# Altium schematic symbol library Nixie.SchLib: 30 symbols
Pins are listed as number, name and electrical type; pins without a type are passive.

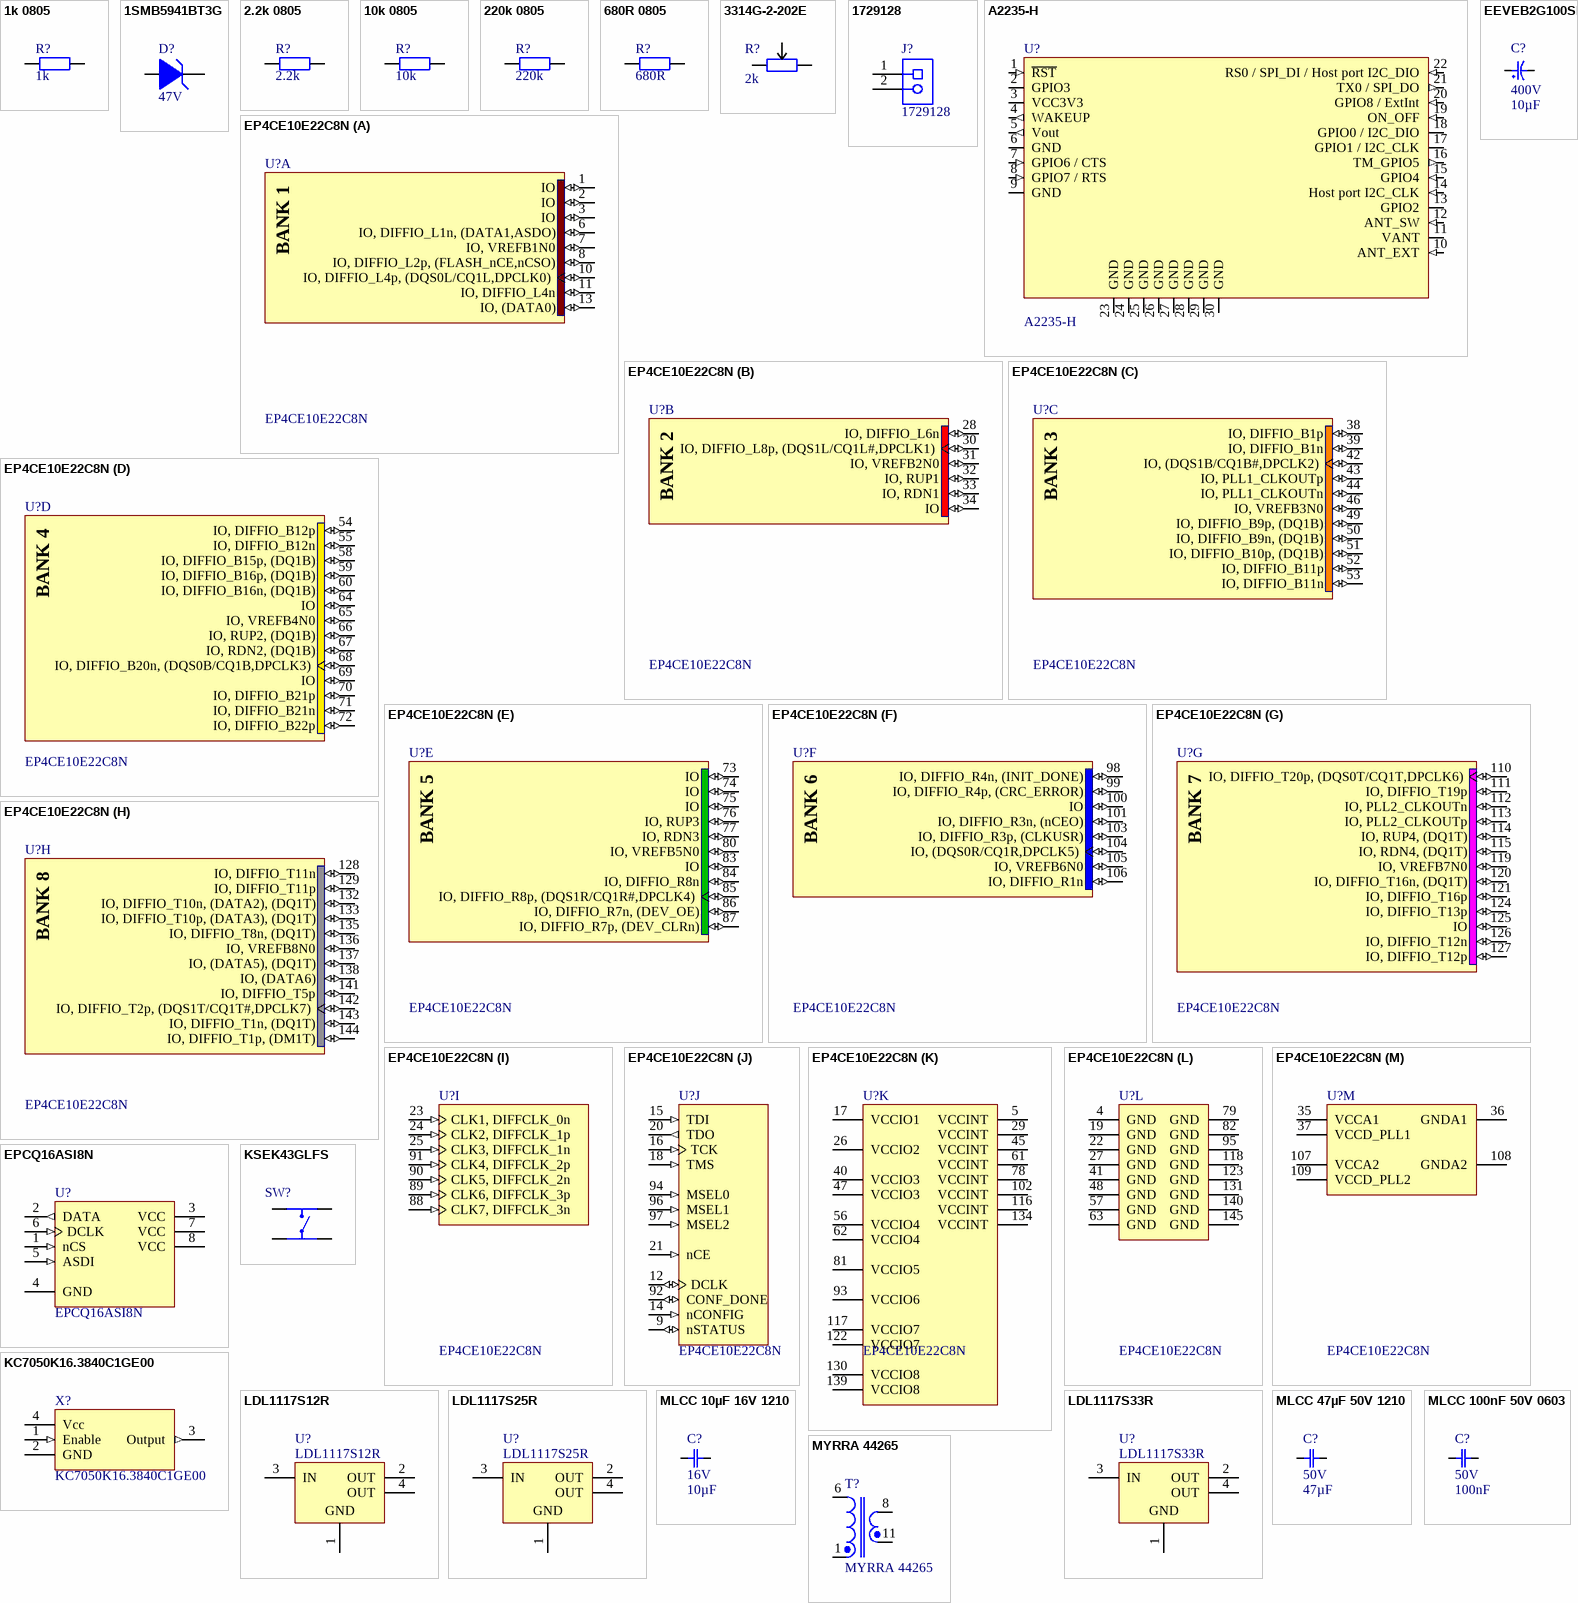
[diagram p0: symbols 1k 0805 to MYRRA 44265]

## 1k 0805
designator R?, comment 1k
Chip resistor 1k 0805; Value: 1k
footprint RES0805 (Chip Resistor, 0805)
pins: 1, 2
text: Text

## 1SMB5941BT3G
designator D?, comment 47V
47V Zener diode; HelpURL: https://datasheet.ciiva.com/15142/getdatasheetpartid-72163-15142395.pdf
footprint 1SMB5941BT3G (Molded Diode, 2-Leads, Body 4,33x3,63mm, IPC Low Density)
pins: A, K

## 2.2k 0805
designator R?, comment 2.2k
Chip resistor 2.2k 0805; Value: 2.2k
footprint RES0805 (Chip Resistor, 0805)
pins: 1, 2
text: Text

## 10k 0805
designator R?, comment 10k
Chip resistor 10k 0805; Value: 10k
footprint RES0805 (Chip Resistor, 0805)
pins: 1, 2
text: Text

## 220k 0805
designator R?, comment 220k
Chip resistor 220k 0805; Value: 220k
footprint RES0805 (Chip Resistor, 0805)
pins: 1, 2
text: Text

## 680R 0805
designator R?, comment 680R
Chip resistor 680R 0805; Value: 680R
footprint RES0805 (Chip Resistor, 0805)
pins: 1, 2
text: Text

## 3314G-2-202E
designator R?, comment 2k
Trimming potentiometer, 2k; Value: 2k
footprint 3314G-2-202E (Trimming potentiometer)
pins: 1, 2 3, 3 2
text: Text

## 1729128
designator J?
PCB Terminal Block, 13.5 A, 400 V, 2-Pin THD, RoHS, Bulk; Manufacturer: Phoenix Contact; Package Version: 03/2015; No. of Rows: 1; Pitch: 5.08mm; No. of Positions: 2; Voltage Rating: 400V; Current Rating: 13500mA; Manufacturer URL: http://www.phoenixcontact.com/; Datasheet URL: https://datasheet.ciiva.com/16046/1729128-16046181.pdf; RoHS: TRUE; Package URL: https://www.phoenixcontact.com/online/portal/pi/pxc/product_detail_page/!ut/p/b1/3VdJjqNKFDxLH8AFycySyWY2ozFsEPOMMQaDOX1XedGL_1Vdm5YXJleknhSKeBkvI6EA8ncAo3AYoDhBQGco6KN7VURTdemj9us_IEKEZo_YHiPAEWEFmDGOHMORkqKYCORBZxgL7ZoaZYcbFFUZ3fqxSY6GOuxydWUuHqz1ynmMFygu583Bob0Ewr6Sd_l-5m-kAueHiB0jpRwZwe58wwtkpxtMYd_LmGcDRU02dRNEyWt6Y2ti5pSyJ_reIkzIulrqApdnbT11V5jnCKbYNCvhEM1MCpPByat_X379-iThf08CI5GfOPqfBeS3BRoBOdD55AKVv0iLwCMq-2BrzXWSGRH7pUGD9uwXQjiph3xL0DKQwdGa0JImiIOmBNOestqgwTHSSs2oOep-78apyXQBvNi8ZLaFjvjWvcaUEBu0MC6Wbe-d6mB0FAebo2lUWinqYaZs5DAYzV0RP9yitUjnGJ0iI9xhZkT42OCQNUJJhkgWINNQLP2JFP6OpMg3JCVg70jqHT0lvKOnhHf0lPuOnnLf0VPuWx6_dxwUIvwk5WMkT0kLL1mh61l2yZVSzG3pYV_bqo-mj6uMKwKwdnnW8Jh5RTOJzMOA5c-eJDaZQw4mTMPH02PvS_ZAqNVjVTo2WyYLkwH_KU1mmmG5kjRhDqPXLwwVHvVOjCM60-fpXvTDfMGW1PVFVS1r4e4yVDk4ZdNbkUHvqPqQSeian4UD39fNKmachqdJ1NJbyk8rXT9mXTvPk3oE5meulKGgiruPJek-4I9hTT6G8ZLOyRSm2RRVbThERQad5OS28hdt4YW4vG0stgYYzsWsK4_7y6DZMjJSCqri1kyiZR5vD7pwIrNR7QwPHTcLTI5qT7eRlpHrdGiupYlqQDJ7zy_CND8fWWBoLRXxk1RVcXiBQwbTD4Xi7KL-FuO94t9xaqweXzH; PartNumber: 1729128; Package Description: 2-Pin Through Hole Device, Body 8.1 x 10.16 mm, Pitch 5.08 mm; Datasheet Version: 12/2013; Mounting Technology: ThroughHole; Orientation: Horizontal; Package Reference: 1729128-2; Packing: Bulk
footprint 1729128 (Receptacle, 2-Leads, Body 8.1x10.16mm, Pitch 5.08mm)
pins: 1, 2

## A2235-H
designator U?
GPS module
footprint A2235 (GPS module)
pins: 1 ~{RST} (in) "Reset input, active low", 2 GPIO3 "Leave open", 3 VCC3V3 (power) "3.0 - 3.6 V DC", 4 WAKEUP (out) "Status of digital section", 5 Vout (out) "Permanent 1.8V voltage output for up to 20mA current max.", 6 GND (power) "Ground (power supply)", 7 GPIO6 / CTS (in) "Configuration pin for communication mode. 10K to 1.8V for UART mode; leave open for SPI & host port I2C modes. SPI clock pin when module works in SPI mode", 8 GPIO7 / RTS (in) "Configuration pin for communication mode. 10K to GND for host port I2C mode; leave open for SPI & UART modes. SPI chip select pin when module works in SPI mode", 9 GND (power) "Ground (power supply)", 10 ANT_EXT (in) "Antenna signal / Z=50 Ohm (external active antenna in-put)", 11 VANT (power) "Power supply antenna – provide according voltage (up to 5.0 VDC) - VANT feeds Pin 10 ANT_EXT", 12 ANT_SW (in) "Antenna switch (LOW or open = internal antenna, HIGH = external antenna)", 13 GPIO2 "Leave open", 14 Host port I2C_CLK (in) "Host port I2C clock pin when module works in host port I2C mode", 15 GPIO4 (in) "External interrupt input pin – reserved for future use, leave open", 16 TM_GPIO5 (out) "Time Mark – 1PPS signal", 17 GPIO1 / I2C_CLK (io) "Configuration pin for the baud rate,2.2K to 1.8V for the baud rate 4800 bps (see also“Configure the baud rate“). I2C clock output to MEMS interface", 18 GPIO0 / I2C_DIO (io) "Configuration pin for the baud rate,2.2K to 1.8V for the baud rate 4800 bps (see also“Configure the baud rate“). I2C I/O to MEMS interface", 19 ON_OFF (in) "Connect to push-pull output! This is mandatory!", 20 GPIO8 / ExtInt (in) "Interrupt input for MEMS interface (If ExtInt is not going to be used, it is recommended that this pin be tied directly to ground. Otherwise, a 100K pull-down resistor to ground should be connected to the ExtInt pin.)", 21 TX0 / SPI_DO (out) "Serial output 0. NMEA out if configured for UART; SPI data out pin when module works in SPI mode.", 22 RS0 / SPI_DI / Host port I2C_DIO (in) "Serial input 0. NMEA in if configured for UART; SPI data in pin when module works in SPI mode; Host port I2C data I/O pin when module works in hist port I2C mode.", 23 GND (power) "Ground (power supply)", 24 GND (power) "Ground (power supply)", 25 GND (power) "Ground (power supply)", 26 GND (power) "Ground (power supply)", 27 GND (power) "Ground (power supply)", 28 GND (power) "Ground (power supply)", 29 GND (power) "Ground (power supply)", 30 GND (power) "Ground (power supply)"

## EEVEB2G100SM
designator C?  value 10µF  Voltage: 400V  (hidden comment: EEVEB2G100SM)
Aluminum Electrolytic Capacitor, 10µF, 400V; HelpURL: https://datasheet.ciiva.com/17535/aba0000ce11-17535277.pdf
footprint EEVEB2G100SM (Footprint not found)
pins: 1, 2

## EP4CE10E22C8N
designator U?
Cyclone IV Family FPGA, 1.2V Core, 91 I/O Pins, 2 PLLs, 144-Pin QFP, Speed Grade 8, Commercial Grade, Pb-Free; Manufacturer: Altera; PackageDescription: 144-Pin Plastic Enhanced Quad Flat Pack (EQFP) - Wire Bond - A:1.65 - D2:5.4; ComponentLink2Description: Handbook; DatasheetVersion: ver1.6, Nov-2011; ComponentLink2URL: http://www.altera.com/literature/hb/cyclone-iv/cyclone4-handbook.pdf; PackageVersion: ver1.0, Jan-2011; ComponentLink1URL: http://www.altera.com/; ComponentLink3Description: Pinout; ComponentLink4Description: Package Specification; PackageReference: EQFP144_A-165_D2-54; Code_JEDEC: MS-026-BFB-HD; ComponentLink3URL: http://www.altera.com/literature/lit-dp.jsp?category=cyc%204&showspreadsheet=y; ComponentLink1Description: Manufacturer URL; ComponentLink4URL: http://www.altera.com/devicepackaging/04R00402-00.pdf
footprint EP4CE10E22C8N (Cyclone IV Family FPGA, 1.2V Core, 91 I/O Pins, 2 PLLs, 144-Pin QFP, Speed Grade 8, Commercial Grade, Pb-Free)
part A pins: 1 IO (io), 2 IO (io), 3 IO (io), 6 IO, DIFFIO_L1n, (DATA1,ASDO) (io), 7 IO, VREFB1N0 (io), 8 IO, DIFFIO_L2p, (FLASH_nCE,nCSO) (io), 10 IO, DIFFIO_L4p, (DQS0L/CQ1L,DPCLK0) (io), 11 IO, DIFFIO_L4n (io), 13 IO, (DATA0) (io)
part B pins: 28 IO, DIFFIO_L6n (io), 30 IO, DIFFIO_L8p, (DQS1L/CQ1L#,DPCLK1) (io), 31 IO, VREFB2N0 (io), 32 IO, RUP1 (io), 33 IO, RDN1 (io), 34 IO (io)
part C pins: 38 IO, DIFFIO_B1p (io), 39 IO, DIFFIO_B1n (io), 42 IO, (DQS1B/CQ1B#,DPCLK2) (io), 43 IO, PLL1_CLKOUTp (io), 44 IO, PLL1_CLKOUTn (io), 46 IO, VREFB3N0 (io), 49 IO, DIFFIO_B9p, (DQ1B) (io), 50 IO, DIFFIO_B9n, (DQ1B) (io), 51 IO, DIFFIO_B10p, (DQ1B) (io), 52 IO, DIFFIO_B11p (io), 53 IO, DIFFIO_B11n (io)
part D pins: 54 IO, DIFFIO_B12p (io), 55 IO, DIFFIO_B12n (io), 58 IO, DIFFIO_B15p, (DQ1B) (io), 59 IO, DIFFIO_B16p, (DQ1B) (io), 60 IO, DIFFIO_B16n, (DQ1B) (io), 64 IO (io), 65 IO, VREFB4N0 (io), 66 IO, RUP2, (DQ1B) (io), 67 IO, RDN2, (DQ1B) (io), 68 IO, DIFFIO_B20n, (DQS0B/CQ1B,DPCLK3) (io), 69 IO (io), 70 IO, DIFFIO_B21p (io), 71 IO, DIFFIO_B21n (io), 72 IO, DIFFIO_B22p (io)
part E pins: 73 IO (io), 74 IO (io), 75 IO (io), 76 IO, RUP3 (io), 77 IO, RDN3 (io), 80 IO, VREFB5N0 (io), 83 IO (io), 84 IO, DIFFIO_R8n (io), 85 IO, DIFFIO_R8p, (DQS1R/CQ1R#,DPCLK4) (io), 86 IO, DIFFIO_R7n, (DEV_OE) (io), 87 IO, DIFFIO_R7p, (DEV_CLRn) (io)
part F pins: 98 IO, DIFFIO_R4n, (INIT_DONE) (io), 99 IO, DIFFIO_R4p, (CRC_ERROR) (io), 100 IO (io), 101 IO, DIFFIO_R3n, (nCEO) (io), 103 IO, DIFFIO_R3p, (CLKUSR) (io), 104 IO, (DQS0R/CQ1R,DPCLK5) (io), 105 IO, VREFB6N0 (io), 106 IO, DIFFIO_R1n (io)
part G pins: 110 IO, DIFFIO_T20p, (DQS0T/CQ1T,DPCLK6) (io), 111 IO, DIFFIO_T19p (io), 112 IO, PLL2_CLKOUTn (io), 113 IO, PLL2_CLKOUTp (io), 114 IO, RUP4, (DQ1T) (io), 115 IO, RDN4, (DQ1T) (io), 119 IO, VREFB7N0 (io), 120 IO, DIFFIO_T16n, (DQ1T) (io), 121 IO, DIFFIO_T16p (io), 124 IO, DIFFIO_T13p (io), 125 IO (io), 126 IO, DIFFIO_T12n (io), 127 IO, DIFFIO_T12p (io)
part H pins: 128 IO, DIFFIO_T11n (io), 129 IO, DIFFIO_T11p (io), 132 IO, DIFFIO_T10n, (DATA2), (DQ1T) (io), 133 IO, DIFFIO_T10p, (DATA3), (DQ1T) (io), 135 IO, DIFFIO_T8n, (DQ1T) (io), 136 IO, VREFB8N0 (io), 137 IO, (DATA5), (DQ1T) (io), 138 IO, (DATA6) (io), 141 IO, DIFFIO_T5p (io), 142 IO, DIFFIO_T2p, (DQS1T/CQ1T#,DPCLK7) (io), 143 IO, DIFFIO_T1n, (DQ1T) (io), 144 IO, DIFFIO_T1p, (DM1T) (io)
part I pins: 23 CLK1, DIFFCLK_0n (in), 24 CLK2, DIFFCLK_1p (in), 25 CLK3, DIFFCLK_1n (in), 88 CLK7, DIFFCLK_3n (in), 89 CLK6, DIFFCLK_3p (in), 90 CLK5, DIFFCLK_2n (in), 91 CLK4, DIFFCLK_2p (in)
part J pins: 9 nSTATUS (io), 12 DCLK (io), 14 nCONFIG (in), 15 TDI (in), 16 TCK (in), 18 TMS (in), 20 TDO (out), 21 nCE (in), 92 CONF_DONE (io), 94 MSEL0 (in), 96 MSEL1 (in), 97 MSEL2 (in)
part K pins: 5 VCCINT (power), 17 VCCIO1 (power), 26 VCCIO2 (power), 29 VCCINT (power), 40 VCCIO3 (power), 45 VCCINT (power), 47 VCCIO3 (power), 56 VCCIO4 (power), 61 VCCINT (power), 62 VCCIO4 (power), 78 VCCINT (power), 81 VCCIO5 (power), 93 VCCIO6 (power), 102 VCCINT (power), 116 VCCINT (power), 117 VCCIO7 (power), 122 VCCIO7 (power), 130 VCCIO8 (power), 134 VCCINT (power), 139 VCCIO8 (power)
part L pins: 4 GND (power), 19 GND (power), 22 GND (power), 27 GND (power), 41 GND (power), 48 GND (power), 57 GND (power), 63 GND (power), 79 GND (power), 82 GND (power), 95 GND (power), 118 GND (power), 123 GND (power), 131 GND (power), 140 GND (power), 145 GND (power)
part M pins: 35 VCCA1 (power), 36 GNDA1 (power), 37 VCCD_PLL1 (power), 107 VCCA2 (power), 108 GNDA2 (power), 109 VCCD_PLL2 (power)
part A text: BANK 1
part B text: BANK 2
part C text: BANK 3
part D text: BANK 4
part E text: BANK 5
part F text: BANK 6
part G text: BANK 7
part H text: BANK 8

## EPCQ16ASI8N
designator U?
EPCS16 Series, In-system programmable 3.3V serial configuration device, 8-Pin SOIC, 16-Megabit, Industrial Grade, Pb-Free; Configures: All Arria series, all Cyclone series and all Stratix series (except Stratix); Code_JEDEC: MS-012-AA; PackageVersion: ver14.2, Oct-2005; PackageReference: SOIC8; Code_IPC: SOIC127P600-8; PackageDescription: 8-Pin Small Outline Integrated Circuit Package (SOIC8); DatasheetVersion: ver3.0, Dec-2009
footprint EPCQ16ASI8N (EPCS16 Series, In-system programmable 3.3V serial configuration device, 8-Pin SOIC, 16-Megabit, Industrial Grade, Pb-Free)
pins: 1 nCS (in) "Active low, chip select input", 2 DATA (out) "Serial data out", 3 VCC (power) "3.3V supply", 4 GND (power) "Ground", 5 ASDI (in) "AS data in", 6 DCLK (in) "Provides timing of the serial interface", 7 VCC (power) "3.3V supply", 8 VCC (power) "3.3V supply"

## KC7050K16.3840C1GE00
designator X?
Clock Oscillator, 16.384 MHz, 7x5mm
footprint KC7050K16.3840C1GE00 (Clock oscillator)
pins: 1 Enable (in), 2 GND (power), 3 Output (out), 4 Vcc (power)

## KSEK43GLFS
designator SW?  (value not drawn)
Low Profile Tact Switch, 4.3 mm height
footprint KSEK43GLFS (Low Profile Tact Switch, 4.3 mm height)
pins: 1, 2, 3, 4

## LDL1117S12R
designator U?
Fixed LDO Voltage Regulator, 2.6 V to 18 V input, 170 mV Dropout, 1.2 V / 1.2 A out, SOT-223-4; PartNumber: TLV1117LV30DCYT; Manufacturer: Texas Instruments; Fixed Output Options(V): 3; Vdo(Typ)(mV): 1200; SubFamily: Single Channel LDO; Vin(Min)(V): 2; Vin(Max)(V): 5.5; Eco-Plan: Green (RoHS & no Sb/Br); Iout(Max)(A): 1; Iq(Typ)(mA): 0.05; PackageVersion: 4202506/B; ComponentLink2URL: http://www.ti.com/general/docs/lit/getliterature.tsp?genericPartNumber=TLV1117LV30&fileType=pdf; ComponentLink2Description: Datasheet; ComponentLink3Description: Package Specification; Vout Adj(Max)(V): 3; ComponentLink1Description: Manufacturer URL; DatasheetVersion: SBVS160A; PackageDescription: 4-Pin Plastic Small Outline, Body 3.5 x 6.5 mm, Pitch 2.3 mm; ComponentLink1URL: http://www.ti.com/; PackageReference: DCY0004A; Code_JEDEC: TO-261; Accuracy(%): 2; Mounting Technology: Surface Mount; Vout Adj(Min)(V): 3; ComponentLink3URL: http://www.ti.com/litv/pdf/mpds094a
footprint TLV1117 (Low-Dropout Voltage Regulator)
pins: 1 GND (power) "Ground pin", 2 OUT (power) "Regulated output voltage pin.", 3 IN (power) "Input pin.", 4 OUT (power) "Regulated output voltage pin."

## LDL1117S25R
designator U?
Fixed LDO Voltage Regulator, 2.6 V to 18 V input, 75 mV Dropout, 2.5 V / 1.2 A out, SOT-223-4; Manufacturer: Texas Instruments; PartNumber: TLV1117LV25DCYT; Fixed Output Options(V): 2.5; Accuracy(%): 2; Iq(Typ)(mA): 0.05; Eco-Plan: Green (RoHS & no Sb/Br); Vdo(Typ)(mV): 1200; Iout(Max)(A): 1; Vin(Max)(V): 5.5; SubFamily: Single Channel LDO; ComponentLink3URL: http://www.ti.com/litv/pdf/mpds094a; DatasheetVersion: SBVS160A; PackageVersion: 4202506/B; Mounting Technology: Surface Mount; PackageDescription: 4-Pin Plastic Small Outline, Body 3.5 x 6.5 mm, Pitch 2.3 mm; ComponentLink2Description: Datasheet; ComponentLink3Description: Package Specification; ComponentLink2URL: http://www.ti.com/general/docs/lit/getliterature.tsp?genericPartNumber=TLV1117LV25&fileType=pdf; Code_JEDEC: TO-261; Vout Adj(Min)(V): 2.5; Vin(Min)(V): 2; PackageReference: DCY0004A; ComponentLink1Description: Manufacturer URL; ComponentLink1URL: http://www.ti.com/; Vout Adj(Max)(V): 2.5
footprint TLV1117 (Low-Dropout Voltage Regulator)
pins: 1 GND (power) "Ground pin", 2 OUT (power) "Regulated output voltage pin.", 3 IN (power) "Input pin.", 4 OUT (power) "Regulated output voltage pin."

## LDL1117S33R
designator U?
Fixed LDO Voltage Regulator, 2.6 V to 18 V input, 75 mV Dropout, 3.3 V / 1.2 A out, SOT-223-4; Manufacturer: Texas Instruments; PartNumber: TLV1117LV12DCYT; Vout Adj(Min)(V): 1.2; Iout(Max)(A): 1; Vin(Max)(V): 5.5; Vdo(Typ)(mV): 1200; Accuracy(%): 2; SubFamily: Single Channel LDO; Iq(Typ)(mA): 0.05; Eco-Plan: Green (RoHS & no Sb/Br); PackageVersion: 4202506/B; ComponentLink2URL: http://www.ti.com/general/docs/lit/getliterature.tsp?genericPartNumber=TLV1117LV12&fileType=pdf; ComponentLink3URL: http://www.ti.com/litv/pdf/mpds094a; ComponentLink3Description: Package Specification; Mounting Technology: Surface Mount; PackageDescription: 4-Pin Plastic Small Outline, Body 3.5 x 6.5 mm, Pitch 2.3 mm; DatasheetVersion: SBVS160A; Fixed Output Options(V): 1.2; Vin(Min)(V): 2; PackageReference: DCY0004A; Code_JEDEC: TO-261; ComponentLink2Description: Datasheet; ComponentLink1Description: Manufacturer URL; ComponentLink1URL: http://www.ti.com/; Vout Adj(Max)(V): 1.2
footprint TLV1117 (Low-Dropout Voltage Regulator)
pins: 1 GND (power) "Ground pin", 2 OUT (power) "Regulated output voltage pin.", 3 IN (power) "Input pin.", 4 OUT (power) "Regulated output voltage pin."

## MLCC 10µF 16V 1210
designator C?, comment Voltage: 16V  (hidden comment: 10µF)
MLCC 10µF 16V 1210; Value: 10µF
footprint MLCC_1210 (Ceramic capacitor (MLCC), 1210)
pins: 1, 2

## MLCC 47µF 50V 1210
designator C?, comment Voltage: 50V  (hidden comment: 47µF)
MLCC 47µF 50V 1210; Value: 47µF
footprint MLCC_1210 (Ceramic capacitor (MLCC), 1210)
pins: 1, 2

## MLCC 100nF 50V 0603
designator C?, comment Voltage: 50V  (hidden comment: 100nF)
MLCC 100nF 50V 0603; Value: 100nF
footprint MLCC_0603 (Ceramic capacitor (MLCC), 0603)
pins: 1, 2

## MYRRA 44265
designator T?
Isolation Transformer 10 VA, 230V, 6V; HelpURL: https://datasheet.ciiva.com/1377/92210-1377460.pdf
footprint MYRRA_44265
pins: 1, 6, 8, 11

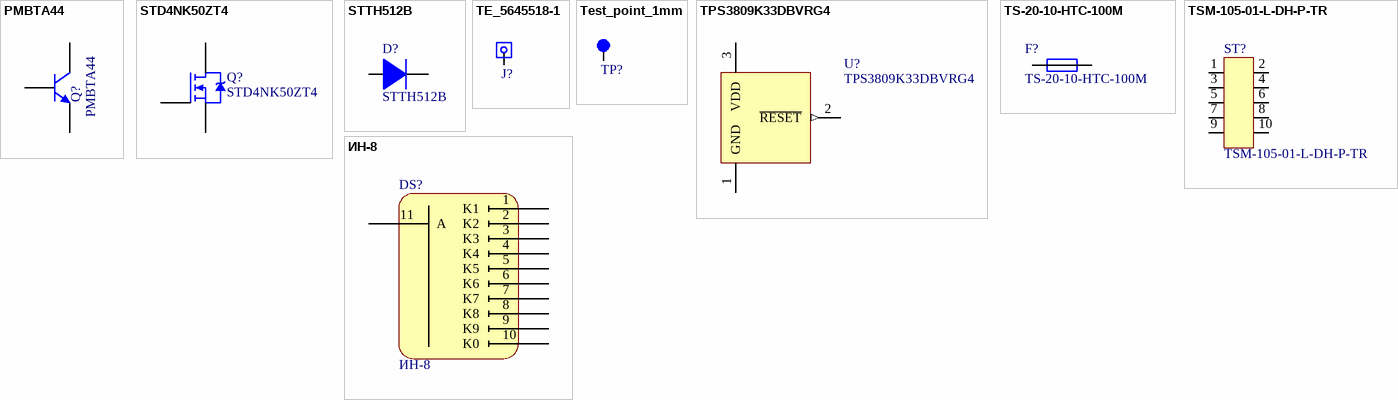
[diagram p1: symbols PMBTA44 to ИН-8]

## PMBTA44
designator Q?
400 V, 0.3 A NPN high-voltage low VCEsat transistor; HelpURL: http://assets.nexperia.com/documents/data-sheet/PMBTA44.pdf
footprint SOT23_PMBTA44 (SOT23, 3-Leads, Body 2,90x2,30mm, Pitch 0,95mm, IPC Low Density)
pins: 1 B, 2 E, 3 C

## STD4NK50ZT4
designator Q?
N-CHANNEL 500V - 2.4Ω - 3A DPAK MOSFET; HelpURL: https://datasheet.ciiva.com/4443/cd00003100-79249-4443539.pdf
footprint STD4NK50ZT4 (D-PAK, 3-Pads, Body 6,20x6,66mm (max), IPC Low Density)
pins: D "Drain", G "Gate", s S "Source"

## STTH512B
designator D?
Ultrafast recovery - 1200 V diode; HelpURL: https://datasheet.ciiva.com/6374/cd00096465-6374991.pdf
footprint STTH512B (D-PAK, 3-Pads, Body 6,21x6,73mm (max), IPC Low Density)
pins: A, K

## TE_5645518-1
designator J?  (value not drawn)
Mini-spring socket
footprint TE_5645518-1 (Mini-spring socket)
pins: 1

## Test_point_1mm
designator TP?  (value not drawn)  (no BOM)
1mm test point
footprint TEST_POINT_1MM (1mm test point)
pins: TP

## TPS3809K33DBVRG4
designator U?
3.3V supervisor
footprint TPS3809K33DBVRG4 (3.3V supervisor)
pins: 1 GND (power), 2 ~{RESET} (out), 3 VDD (power)

## TS-20-10-HTC-100M
designator F?
Fuse holder
footprint TS-20-10-HTC-100M (Fuse holder)
pins: 1, 2
text: Text

## TSM-105-01-L-DH-P-TR
designator ST?
Male Connector, 2x5 pins, 2.54 mm, right angle; Angle: 90; Columns: 2; Contacts: 10; Mounting_Technology: SMD; Pitch: 2,54mm; Rated_Current: 4,7A; Rated_Voltage: 475V; Rows: 5; Subtype: Header; Temperature_Max: -55°C; Temperature_Min: 125°C; AccessRights: 2147483647; ContentType: Component; Folder: 02_Component_Classes\01_Connectors\; ItemHRID: CON-00013; RevisionId: A2; Gender: Male; Height: 6,1mm; Part_Number: TSM-105-01-L-DH-P; RoHS: Yes; A2000_Part_Number: 06.02.0061; ComponentType: Connector; ContentTypeGUID: CB3C11C4-E317-11DF-B822-12313F0024A2; FolderGUID: 5495AD52-6690-435F-9E49-44D2F6351017; ItemGUID: 027ABF0C-CE72-4FE2-A6FC-FEB3307CCD0E; LifeCycle: In Prototype; LifeCycleStateGUID: F6472DB9-40C4-4028-BB05-F9D9E28A4AB8; ReleaseDate: 29/03/2017 03:00:55 PM
footprint TSM-105-01-L-DH-P-TR (Male Connector, 2x5 pins, 2.54 mm, right angle)
pins: 1, 2, 3, 4, 5, 6, 7, 8, 9, 10

## ИН-8
designator DS?
Nixie tube
footprint IN-8
pins: 1 K1, 2 K2, 3 K3, 4 K4, 5 K5, 6 K6, 7 K7, 8 K8, 9 K9, 10 K0, 11 A